# Altium schematic symbol library Schlib1.SchLib: 6 symbols
Pins are listed as number, name and electrical type; pins without a type are passive.

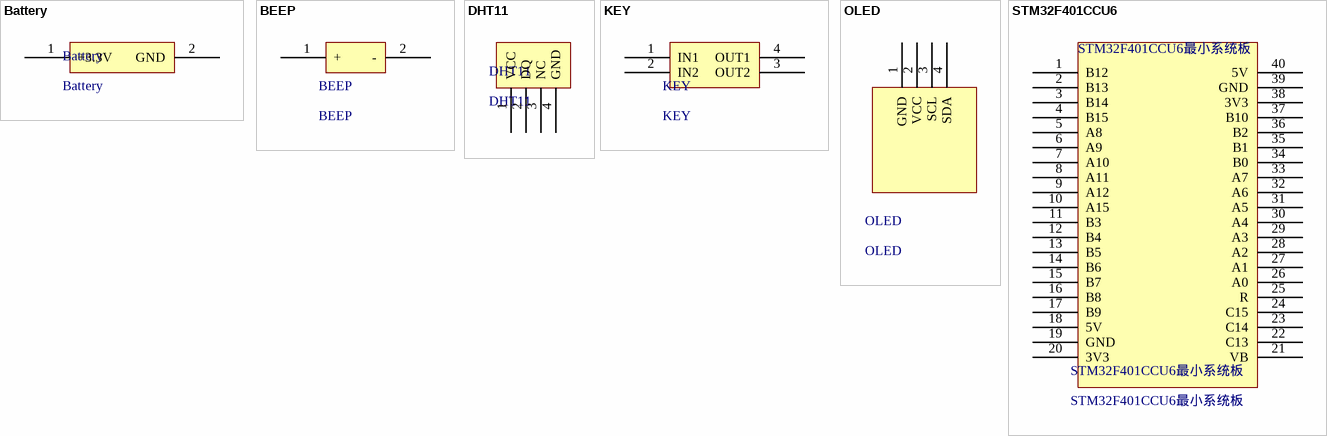
[diagram p0: symbols Battery to STM32F401CCU6]

## Battery
designator Battery
footprint Battery
pins: 1 +3.3V, 2 GND

## BEEP
designator BEEP
footprint BEEP
pins: 1 +, 2 -

## DHT11
designator DHT11
footprint DHT11
pins: 1 VCC, 2 DQ, 3 NC, 4 GND

## KEY
designator KEY
footprint KEY
pins: 1 IN1, 2 IN2, 3 OUT2, 4 OUT1

## OLED
designator OLED
footprint OLED
pins: 1 GND, 2 VCC, 3 SCL, 4 SDA

## STM32F401CCU6
designator STM32F401CCU6最小系统板, comment STM32F401CCU6最小系统板
footprint STM32F401CCU6
pins: 1 B12, 2 B13, 3 B14, 4 B15, 5 A8, 6 A9, 7 A10, 8 A11, 9 A12, 10 A15, 11 B3, 12 B4, 13 B5, 14 B6, 15 B7, 16 B8, 17 B9, 18 5V, 19 GND, 20 3V3, 21 VB, 22 C13, 23 C14, 24 C15, 25 R, 26 A0, 27 A1, 28 A2, 29 A3, 30 A4, 31 A5, 32 A6, 33 A7, 34 B0, 35 B1, 36 B2, 37 B10, 38 3V3, 39 GND, 40 5V